# Altium schematic symbol library EXB28V472JX.SchLib: 1 symbol
Pins are listed as number, name and electrical type; pins without a type are passive.

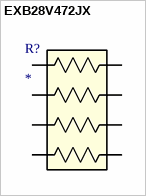
[diagram p0: symbol EXB28V472JX]

## EXB28V472JX
designator R?
No Description Available; Mfr_Name: Panasonic; RefDes: RefDes; Type: Type
footprint C_ARRAY_EXB28V_PAN
pins: 1, 2, 3, 4, 5, 6, 7, 8